# Altium footprint library RT314005.PcbLib: 1 footprints
Each footprint in its own frame and in the unit in brackets; x right, y up, seen from the top. Pads: shape width x height; smd on the part's side, far side on the other; paste and mask are expansions set on the pad; w line width, h text height; cw(c..) or ccw(c..) is an arc to the next point about the centre after c.
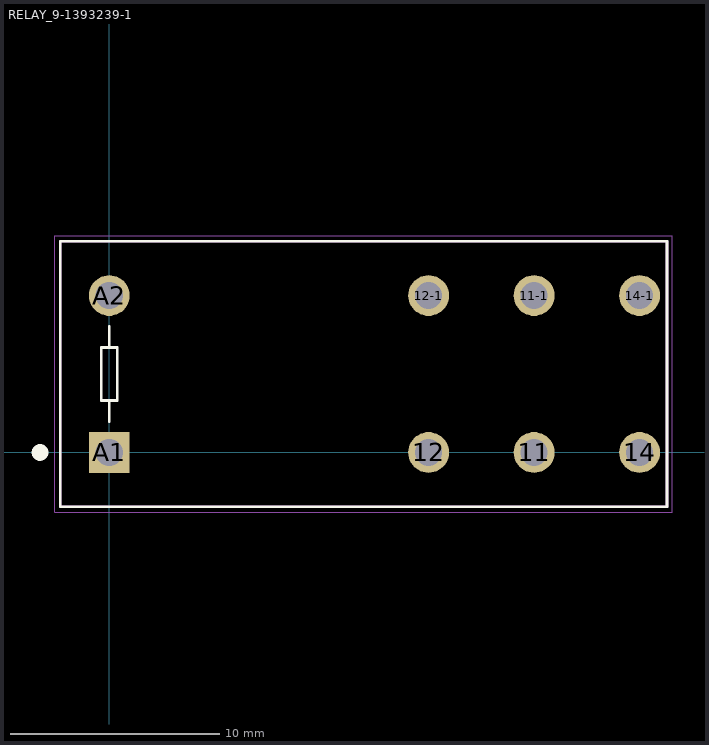
[diagram p0: the footprint, top view; thin cyan lines are the x and y axes]

## RELAY_9-1393239-1 [mm]
pads (8):
  round 1.95 hole 1.3: 11(20.3,0) 11-1(20.3,7.5) 12(15.26,0) 12-1(15.26,7.5) 14(25.34,0) 14-1(25.34,7.5) A2(0,7.5)
  rect 1.95x1.95 hole 1.3: A1(0,0)
Top Overlay:
  circle w0.4: c-3.31,0 r0.2
  lines w0.127: 0,1.46 0,2.48 ; 0,6.04 0,5.02 ; 0,2.48 0.385,2.48 0.385,5.02 0,5.02 ; 0,2.48 -0.385,2.48 -0.385,5.02 0,5.02 ; -2.35,-2.6 -2.35,10.1 26.65,10.1 26.65,-2.6 -2.35,-2.6
Mechanical 13:
  circle w0.4: c0,0 r0.2
  lines w0.127: -2.35,-2.6 -2.35,10.1 26.65,10.1 26.65,-2.6 -2.35,-2.6
Mechanical 15:
  lines w0.05: -2.6,-2.85 26.9,-2.85 26.9,10.35 -2.6,10.35 -2.6,-2.85
3D body "step_temp.STEP": height 6.35, standoff -6.35, extent -14.5,-3.6 14.5,15.7